# EAGLE library part TXS0104ED (library RoboJackets-ICs)
Translator 1 Circuit, 4 Channel Bidirectional DigiKey <https://www.digikey.com/en/products/detail/texas-instruments/TXS0104ED/1910175>
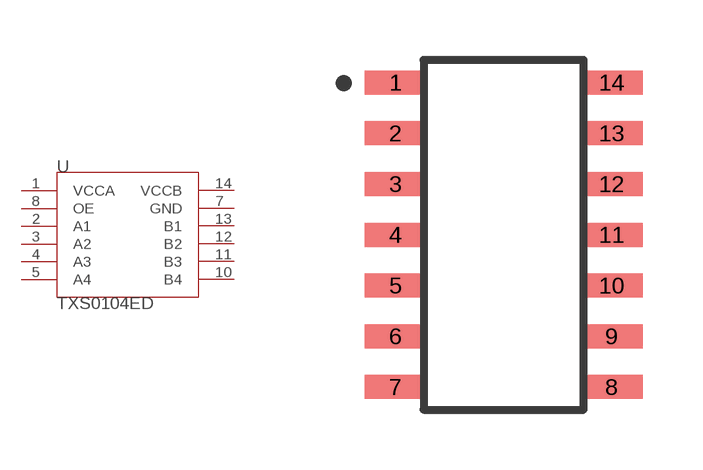
[diagram p42: symbol with the pads of 14-SOIC; footprint 14-SOIC]

Designator prefix U

## TXS0104ED (DKPN: 296-34699-5-ND)  [14-SOIC]
1  VCCA  pas
2  A1  pas
3  A2  pas
4  A3  pas
5  A4  pas
7  GND  pas
8  OE  pas
10  B4  pas
11  B3  pas
12  B2  pas
13  B1  pas
14  VCCB  pas

## Footprint 14-SOIC (pad centres in mm)
smd 1.55 x 0.6: 1 -2.7,3.81; 2 -2.7,2.54; 3 -2.7,1.27; 4 -2.7,0; 5 -2.7,-1.27; 6 -2.7,-2.54; 7 -2.7,-3.81; 8 2.7,-3.81; 9 2.7,-2.54; 10 2.7,-1.27; 11 2.7,0; 12 2.7,1.27; 13 2.7,2.54; 14 2.7,3.81